# Altium schematic symbol library led.SchLib: 1 symbol
Pins are listed as number, name and electrical type; pins without a type are passive.

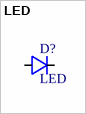
[diagram p0: symbol LED]

## LED
designator D?
footprint PCBComponent_1
pins: 1, 2